# EAGLE library part TUSB2046IBVFR (library Programming_interface_lib)
USB Interface IC 4-Port 12 Mbps USB Full-Speed Hub W/Optional Serial EEPROM Interface 32-LQFP -40 to 85 Source: Datasheet <http://www.ti.com/lit/ds/symlink/tusb2046i.pdf>
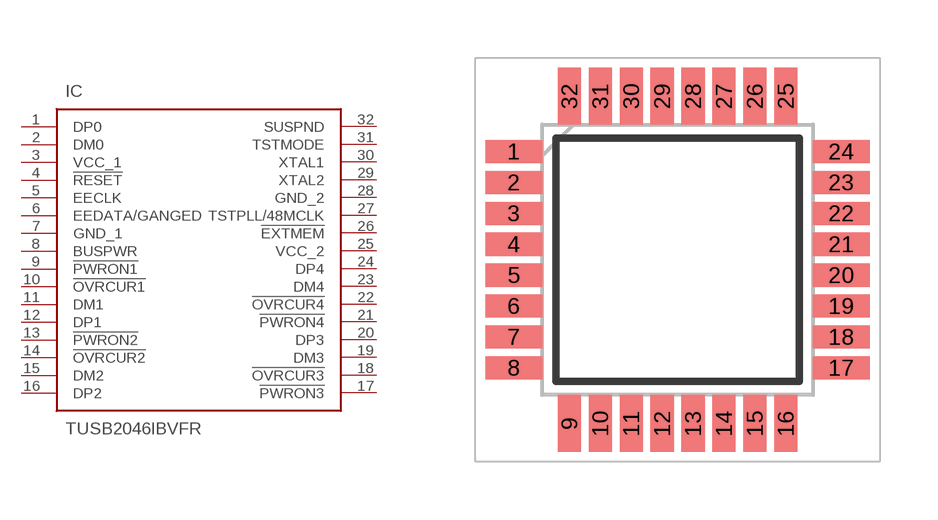
[diagram p0: symbol with the pads of QFP80P900X900X160-32N; footprint QFP80P900X900X160-32N]

Designator prefix IC

## TUSB2046IBVFR (DESCRIPTION: USB Interface IC 4-Port 12 Mbps USB Full-Speed Hub W/Optional Serial EEPROM Interface 32-LQFP -40 to 85; HEIGHT: 1.6mm; MANUFACTURER_NAME: Texas Instruments; MANUFACTURER_PART_NUMBER: TUSB2046IBVFR; MOUSER_PART_NUMBER: 595-TUSB2046IBVFR; MOUSER_PRICE-STOCK: https://www.mouser.com/Search/Refine.aspx?Keyword=595-TUSB2046IBVFR)  [QFP80P900X900X160-32N]
1  DP0
2  DM0
3  VCC_1
4  !RESET
5  EECLK  nc
6  EEDATA/GANGED  nc
7  GND_1
8  BUSPWR
9  !PWRON1  nc
10  !OVRCUR1
11  DM1
12  DP1
13  !PWRON2  nc
14  !OVRCUR2
15  DM2
16  DP2
17  !PWRON3  nc
18  !OVRCUR3
19  DM3
20  DP3
21  !PWRON4  nc
22  !OVRCUR4
23  DM4
24  DP4
25  VCC_2
26  !EXTMEM
27  TSTPLL/48MCLK
28  GND_2
29  XTAL2
30  XTAL1
31  TSTMODE
32  SUSPND  nc

## Footprint QFP80P900X900X160-32N (pad centres in mm)
TUSB2046IBVFR
smd 1.475 x 0.6: 1 -4.238,2.8; 2 -4.238,2; 3 -4.238,1.2; 4 -4.238,0.4; 5 -4.238,-0.4; 6 -4.238,-1.2; 7 -4.238,-2; 8 -4.238,-2.8; 17 4.238,-2.8; 18 4.238,-2; 19 4.238,-1.2; 20 4.238,-0.4; 21 4.238,0.4; 22 4.238,1.2; 23 4.238,2; 24 4.238,2.8
smd 0.6 x 1.475: 9 -2.8,-4.238; 10 -2,-4.238; 11 -1.2,-4.238; 12 -0.4,-4.238; 13 0.4,-4.238; 14 1.2,-4.238; 15 2,-4.238; 16 2.8,-4.238; 25 2.8,4.238; 26 2,4.238; 27 1.2,4.238; 28 0.4,4.238; 29 -0.4,4.238; 30 -1.2,4.238; 31 -2,4.238; 32 -2.8,4.238